# Altium schematic symbol library ICs.SchLib: 1 symbol
Pins are listed as number, name and electrical type; pins without a type are passive.

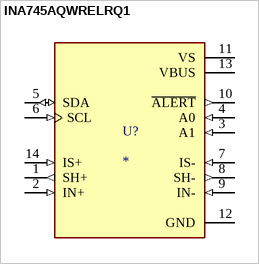
[diagram p0: symbol INA745AQWRELRQ1]

## INA745AQWRELRQ1
designator U?
AEC-Q100 40V 16-bit high-precision I²C output digital power monitor with 800-µΩ EZShunt™ Technology; ComponentLink1Description: New link; ComponentLink1URL: https://www.digikey.com/en/products/detail/texas-instruments/INA745AQWRELRQ1/28022225
footprint INA745AQWRELRQ1
pins: 1 SH+ (out), 2 IN+ (in), 3 A1 (in), 4 A0 (in), 5 SDA (io), 6 SCL (in), 7 IS- (in), 8 SH- (out), 9 IN- (in), 10 ~{ALERT} (out), 11 VS (power), 12 GND (power), 13 VBUS (power), 14 IS+ (in)